# Altium footprint library CAP_CAN_B_4MM_SMT.PcbLib: 1 footprints
Each footprint in its own frame and in the unit in brackets; x right, y up, seen from the top. Pads: shape width x height; smd on the part's side, far side on the other; paste and mask are expansions set on the pad; w line width, h text height; cw(c..) or ccw(c..) is an arc to the next point about the centre after c.
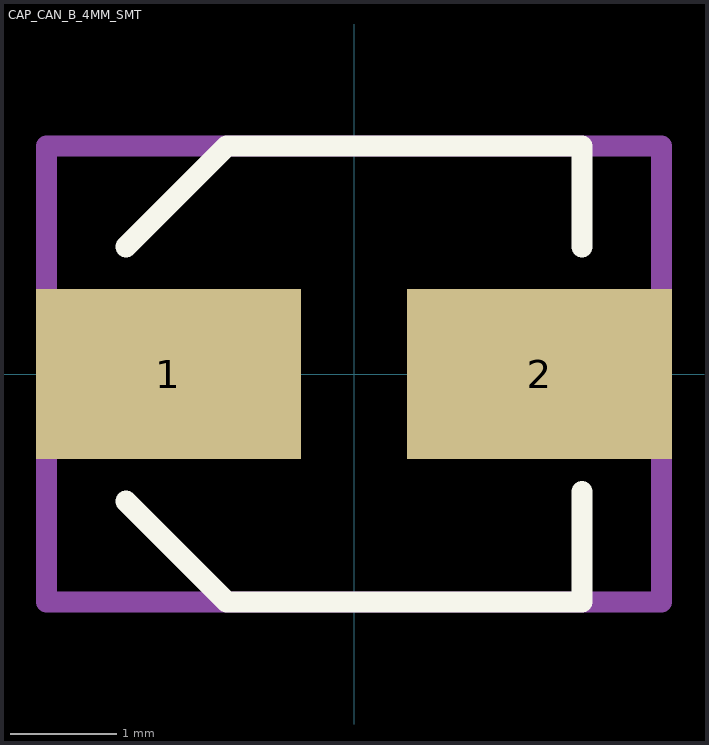
[diagram p0: the footprint, top view; thin cyan lines are the x and y axes]

## CAP_CAN_B_4MM_SMT [mm] "CAP SMT CAN B 4MM dia x 5.4MM height"
height 5.4
pads (2):
  rect 2.5x1.6 smd: 1(-1.75,0) 2(1.75,0)
Top Overlay:
  lines w0.2: -2.15,-1.2 -1.2,-2.15 2.15,-2.15 2.15,-1.11 ; -2.15,1.2 -1.2,2.15 2.15,2.15 2.15,1.2
Part Outline:
  lines w0.2: -2.9,-2.15 -2.9,2.15 2.9,2.15 2.9,-2.15 -2.9,-2.15
3D body: height 5.5, standoff 0.1, extent -1.996,-1.984 1.996,2